# EAGLE library part RS485_TTL (library kxn_Standard_module_ForTutorial)
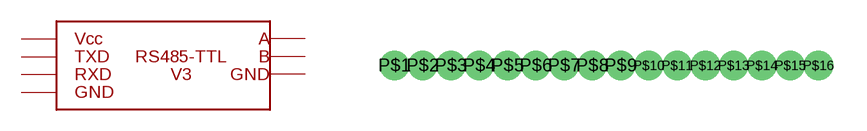
[diagram p0: symbol with the pads of PACKAGE_TUTORIAL; footprint PACKAGE_TUTORIAL]

Designator prefix -

## RS485_TTL  [PACKAGE_TUTORIAL]
P$1  A
P$2  B
P$3  GND
P$4  GND2
P$5  RXD
P$6  TXD
P$7  VCC

## Footprint PACKAGE_TUTORIAL (pad centres in mm)
drill 0.8: P$1 -7.62,0; P$2 -6.35,0; P$3 -5.08,0; P$4 -3.81,0; P$5 -2.54,0; P$6 -1.27,0; P$7 0,0; P$8 1.27,0; P$9 2.54,0; P$10 3.81,0; P$11 5.08,0; P$12 6.35,0; P$13 7.62,0; P$14 8.89,0; P$15 10.16,0; P$16 11.43,0